# Altium schematic symbol library Optoeclectronic.SchLib: 6 symbols
Pins are listed as number, name and electrical type; pins without a type are passive.

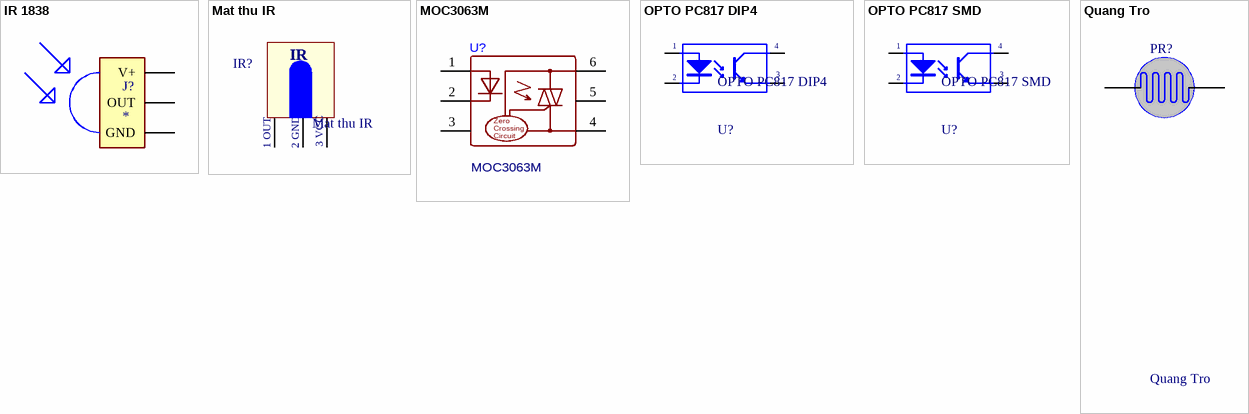
[diagram p0: symbols IR 1838 to Quang Tro]

## IR 1838
designator J?
IR Receiver and Demodulator; MP: TSOP1838; Value: *; Package: None; Availability: Unavailable; Price: None
footprint IR 1838
pins: GND, OUT, VCC V+

## Mat thu IR
designator IR?
Receiver Infraed IC
footprint IR GP1UE26 (Receiver Infared IC)
pins: 1 Out, 2 GND, 3 VCC
text: IR; 1 OUT; 2 GND; 3 VCC

## MOC3063M
designator U?
footprint DIP6 (6 PIN, W 300mil, Pin to pin 100mil)
pins: 1 A, 2 K, 3 NC, 4 MT, 5 NC, 6 MT
text: Zero / Crossing / Circuit

## OPTO PC817 DIP4
designator U?
Single Opto; Value: PC817
footprint DIP4 (W.300/L.400)
pins: 1 A "Anode", 2 K "Cathode", 3 E "Emitter", 4 C "Collector"

## OPTO PC817 SMD
designator U?
Single Opto; Value: PC817
footprint SOP4
pins: 1 A "Anode", 2 K "Cathode", 3 E "Emitter", 4 C "Collector"

## Quang Tro
designator PR?
Photoresistor; Creator: Bien Nguyen
footprint Quang Tro (QUANG TRO)
pins: 1, 2